# Altium schematic symbol library MOLEX NANOFIT 5POS.SchLib: 1 symbol
Pins are listed as number, name and electrical type; pins without a type are passive.

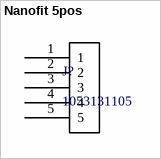
[diagram p0: symbol Nanofit 5pos]

## Nanofit 5pos
designator J?, comment 1053131105
footprint Molex NANOFIT 5POS
pins: 1, 2, 3, 4, 5